# EAGLE library part WE-MLS-4WAY (library Wuerth_Elektronik_eiSos_Version_6-12)
Multiline EMI Suppression Ferrite - Filter for common mode or differential mode - High rated current with typ. 4 A - High impedance common mode inductor with 2x2 winding made by PCB line connection - Broardband litering because of the NiZn-ferrite core - RF- common mode inductor for 2,3 or 4 lines in one component -- Perfect suitable for absorption of common or differential mode interferences in the field of EMC -- High current DC output filters of power supplies e.g. battery chargers, industrial power supplies -- With one turn the component performes like a 3 or 4 times common mode chock for the signal
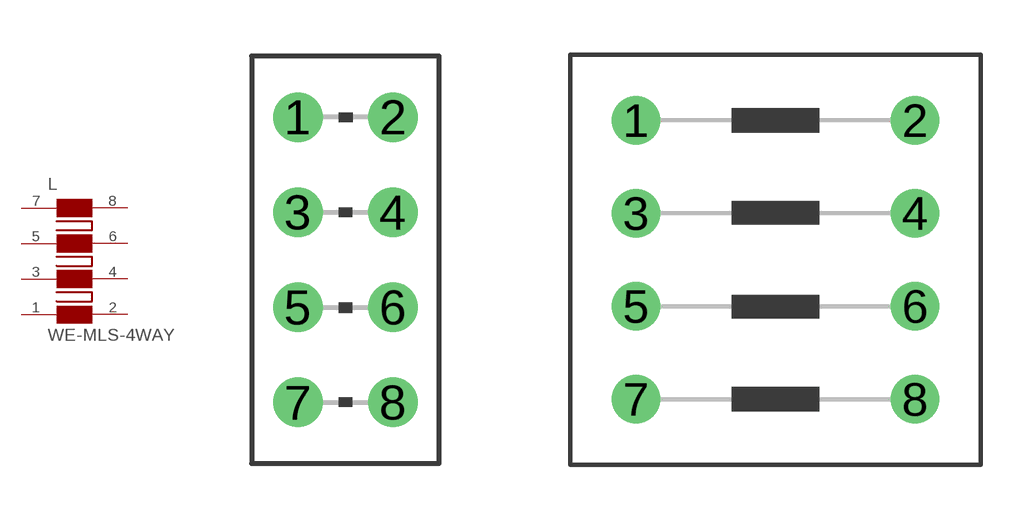
[diagram p1: symbol with the pads of WE-4WAY_74273002; footprints WE-4WAY_74273002, WE-4WAY_742730021]

Designator prefix L

## WE-MLS-4WAY_74273002  [WE-4WAY_74273002]
1  4  pas
2  5  pas
3  3  pas
4  6  pas
5  2  pas
6  7  pas
7  1  pas
8  8  pas

## WE-MLS-4WAY_742730021  [WE-4WAY_742730021]
Pads as for WE-4WAY_74273002

## WE-MLS-4WAY_742730022  [WE-4WAY_742730022]
Pads as for WE-4WAY_74273002

## WE-MLS-4WAY_742730023  [WE-4WAY_742730023]
Pads as for WE-4WAY_74273002

## Footprint WE-4WAY_74273002 (pad centres in mm)
Multiline EMI Suppression Ferrite WE-MLS
drill 0.813 round: 1 -1.27,3.81; 2 1.27,3.81; 3 -1.27,1.27; 4 1.27,1.27; 5 -1.27,-1.27; 6 1.27,-1.27; 7 -1.27,-3.81; 8 1.27,-3.81

## Footprint WE-4WAY_742730021 (pad centres in mm)
Multiline EMI Suppression Ferrite WE-MLS
drill 0.813 round: 1 -3.81,3.81; 2 3.81,3.81; 3 -3.81,1.27; 4 3.81,1.27; 5 -3.81,-1.27; 6 3.81,-1.27; 7 -3.81,-3.81; 8 3.81,-3.81

## Footprint WE-4WAY_742730022 (pad centres in mm)
Multiline EMI Suppression Ferrite WE-MLS
drill 0.813 round: 1 -3.81,3.81; 2 3.81,3.81; 3 -3.81,1.27; 4 3.81,1.27; 5 -3.81,-1.27; 6 3.81,-1.27; 7 -3.81,-3.81; 8 3.81,-3.81

## Footprint WE-4WAY_742730023 (pad centres in mm)
Multiline EMI Suppression Ferrite WE-MLS
drill 0.813 round: 1 -3.81,3.81; 2 3.81,3.81; 3 -3.81,1.27; 4 3.81,1.27; 5 -3.81,-1.27; 6 3.81,-1.27; 7 -3.81,-3.81; 8 3.81,-3.81